# EAGLE library part EFM32_STK3700_SHIELD_PROTOBOARD (library efm32_protoboard)
Full protoboard shield skeleton for the EFM32 STK 3700/3600 starter kits.
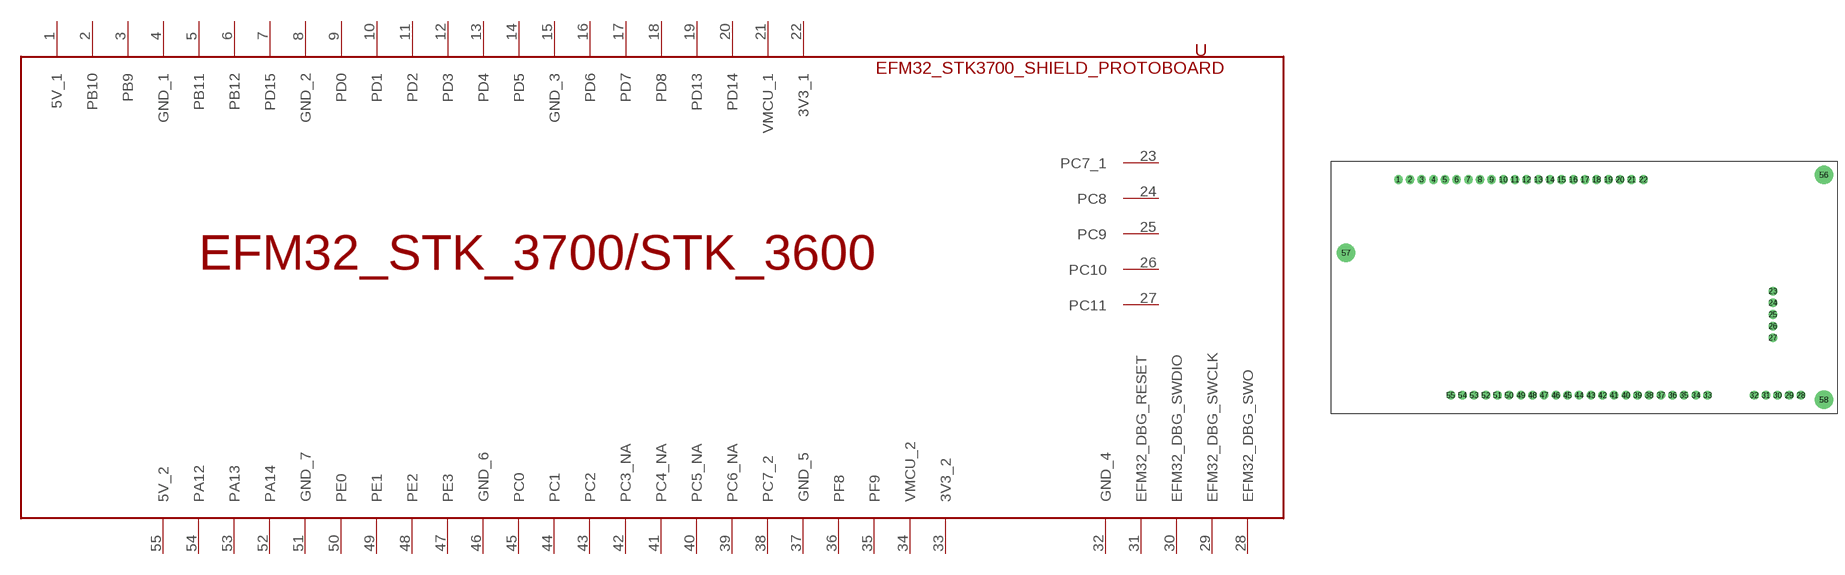
[diagram p3: symbol with the pads of EFM32_STK_FULL_PROTOBOARD; footprint EFM32_STK_FULL_PROTOBOARD]

Designator prefix U

## EFM32_STK3700_SHIELD_PROTOBOARD  [EFM32_STK_FULL_PROTOBOARD]
1  5V_1
2  PB10
3  PB9
4  GND_1
5  PB11
6  PB12
7  PD15
8  GND_2
9  PD0
10  PD1
11  PD2
12  PD3
13  PD4
14  PD5
15  GND_3
16  PD6
17  PD7
18  PD8
19  PD13
20  PD14
21  VMCU_1
22  3V3_1
23  PC7_1
24  PC8
25  PC9
26  PC10
27  PC11
28  EFM32_DBG_SWO
29  EFM32_DBG_SWCLK
30  EFM32_DBG_SWDIO
31  EFM32_DBG_RESET
32  GND_4
33  3V3_2
34  VMCU_2
35  PF9
36  PF8
37  GND_5
38  PC7_2
39  PC6_NA
40  PC5_NA
41  PC4_NA
42  PC3_NA
43  PC2
44  PC1
45  PC0
46  GND_6
47  PE3
48  PE2
49  PE1
50  PE0
51  GND_7
52  PA14
53  PA13
54  PA12
55  5V_2

## Footprint EFM32_STK_FULL_PROTOBOARD (pad centres in mm)
PCB footprint for header pin rows and mechanical drill hits for the Energy Micro EFM32 STK G8xx/3300/3600/3700 starter kits.
drill 1.016 pad 1.88: 1 -11.43,47; 2 -8.89,47; 3 -6.35,47; 4 -3.81,47; 5 -1.27,47; 6 1.27,47; 7 3.81,47; 8 6.35,47; 9 8.89,47; 10 11.43,47; 11 13.97,47; 12 16.51,47; 13 19.05,47; 14 21.59,47; 15 24.13,47; 16 26.67,47; 17 29.21,47; 18 31.75,47; 19 34.29,47; 20 36.83,47; 21 39.37,47; 22 41.91,47; 23 70.104,22.682; 24 70.104,20.142; 25 70.104,17.602; 26 70.104,15.062; 27 70.104,12.522; 28 76.2,0; 29 73.66,0; 30 71.12,0; 31 68.58,0; 32 66.04,0; 33 55.88,0; 34 53.34,0; 35 50.8,0; 36 48.26,0; 37 45.72,0; 38 43.18,0; 39 40.64,0; 40 38.1,0; 41 35.56,0; 42 33.02,0; 43 30.48,0; 44 27.94,0; 45 25.4,0; 46 22.86,0; 47 20.32,0; 48 17.78,0; 49 15.24,0; 50 12.7,0; 51 10.16,0; 52 7.62,0; 53 5.08,0; 54 2.54,0; 55 0,0
drill 3 pad 2: 56 81.229,48.006; 57 -22.784,31.013; 58 81.229,-0.991